# Altium footprint library CLAP.PcbLib: 265 footprints (part 14 of 17)
Each footprint in its own frame and in the unit in brackets; x right, y up, seen from the top. Pads: shape width x height; smd on the part's side, far side on the other; paste and mask are expansions set on the pad; w line width, h text height; cw(c..) or ccw(c..) is an arc to the next point about the centre after c.
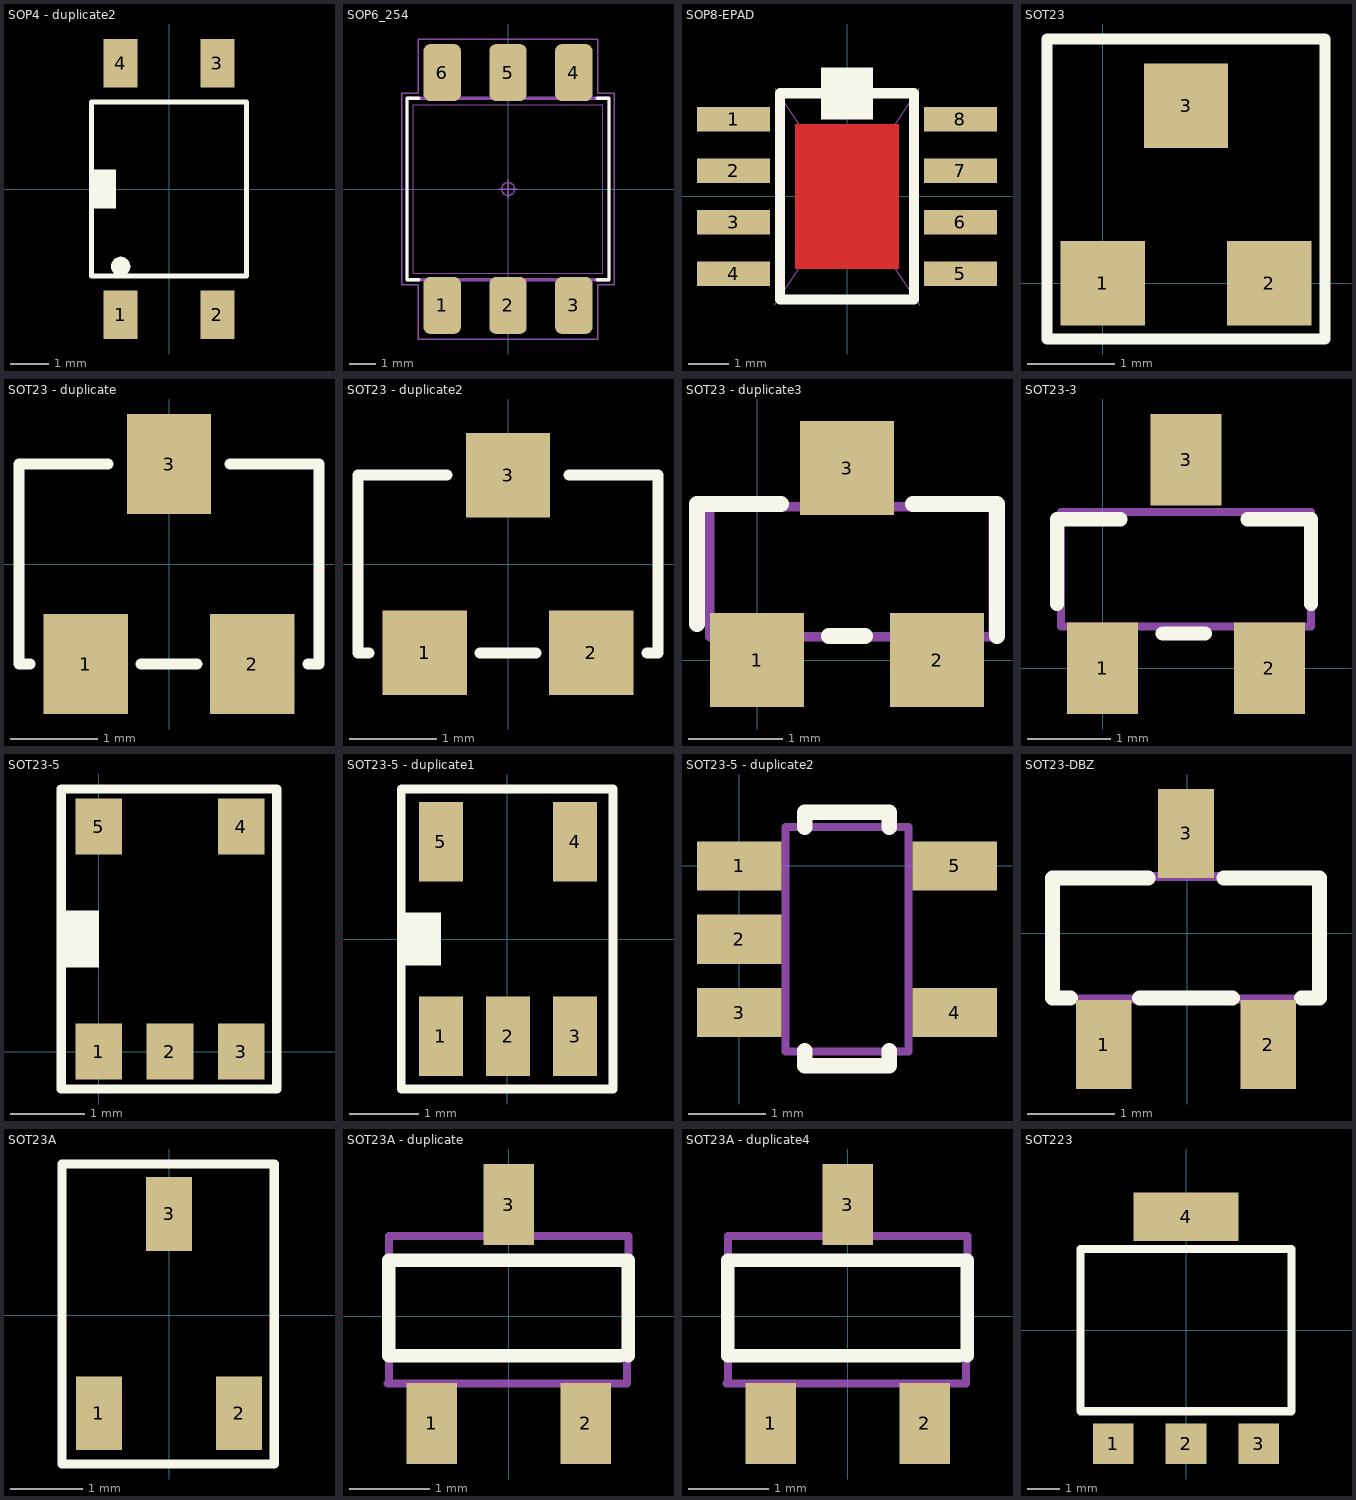
[diagram p13: the footprints below, top view; thin cyan lines are the x and y axes]

## SOP4 - duplicate2 [mil]
pads (4):
  rect 35x50 smd: 1(-50,-130) 2(50,-130) 3(50,130) 4(-50,130)
Top Overlay:
  circle w10: c-50,-80 r5
  region: -80,-20 -55,-20 -55,20 -80,20
  lines w5: -80,-90 80,-90 80,90 -80,90 -80,-90
3D body "SOP-4_3.8x4.1mm_P2.54mm.step": height 82.68, standoff 0, extent -80.5,-116.06 80.49,123.94

## SOP6_254 [mm] "Small Outline IC (SOIC), 2.54 mm pitch; 6 pin, 7.30 mm L X 6.50 mm W X 3.60 mm H body"
height 3.6
pads (6):
  rrect35% 1.44x2.19 smd: 1(-2.54,-4.49) 2(0,-4.49) 3(2.54,-4.49) 4(2.54,4.49) 5(0,4.49) 6(-2.54,4.49)
Top Overlay:
  lines w0.12: -3.44,-3.5 -3.9,-3.5 -3.9,3.5 -3.44,3.5 ; 3.44,-3.5 3.9,-3.5 3.9,3.5 3.44,3.5
Mechanical 11:
  lines w0.12: -3.9,-3.5 3.9,-3.5 3.9,3.5 -3.9,3.5 -3.9,-3.5
Mechanical 12:
  lines w0.025: -3.65,-3.25 3.65,-3.25 3.65,3.25 -3.65,3.25 -3.65,-3.25 ; -3.115,-5.08 -3.115,-4.08 -1.965,-4.08 -1.965,-5.08 -3.115,-5.08 ; -3.115,4.08 -3.115,5.08 -1.965,5.08 -1.965,4.08 -3.115,4.08 ; -0.575,-5.08 -0.575,-4.08 0.575,-4.08 0.575,-5.08 -0.575,-5.08 ; -0.575,4.08 -0.575,5.08 0.575,5.08 0.575,4.08 -0.575,4.08 ; 1.965,-5.08 1.965,-4.08 3.115,-4.08 3.115,-5.08 1.965,-5.08 ; 1.965,4.08 1.965,5.08 3.115,5.08 3.115,4.08 1.965,4.08
Mechanical 15:
  circle w0.05: c0,0 r0.25
  lines w0.05: -0.35,0 0.35,0 ; 0,-0.35 0,0.35 ; -4.1,-3.7 -3.46,-3.7 -3.46,-5.785 3.46,-5.785 3.46,-3.7 4.1,-3.7 4.1,3.7 3.46,3.7 3.46,5.785 -3.46,5.785 -3.46,3.7 -4.1,3.7 -4.1,-3.7
Mechanical 16:
  text ".Designator" at 0,0 h1.2
3D body "SOP6_254.STEP": height 3.6, standoff 0, extent -3.65,-5.08 3.65,5.08

## SOP8-EPAD [mil]
pads (8):
  rect 71x24 smd: 1(-110,75) 2(-110,25) 3(-110,-25) 4(-110,-75) 5(110,-75) 6(110,-25) 7(110,25) 8(110,75)
Top Layer:
  region: -50,70 -50,-70 50,-70 50,70
Top Overlay:
  region: -25,125 -25,75 25,75 25,125
  lines w10: -65,-100 -65,100 65,100 65,-100 -65,-100
Top Solder:
  region: -50,70 -50,-70 50,-70 50,70
Mechanical 1:
  lines w1: -70,-105 70,105 ; -70,105 70,-105
3D body "SOIC-8-1EP_3.9x4.9mm_P1.27mm_EP2.35x2.35mm.step": height 68.9, standoff 0, extent -118.1,-96.46 118.12,96.46

## SOT23 [mil]
pads (3):
  rect 38x38 smd: 1(0,0) 2(75,0) 3(37.5,80)
Top Overlay:
  lines w5: -25,-25 100,-25 100,110 -25,110 -25,-25
3D body "SOT95P229X119-3N.stp": height 46.85, standoff 0.08, extent -21.66,-11.81 96.45,86.62

## SOT23 - duplicate [mil]
pads (3):
  rect 38x45 smd: 1(-37.5,-45) 2(37.5,-45) 3(0,45)
Top Overlay:
  lines w5: -62.5,-45 -67.5,-45 -67.5,45 -27.5,45 ; -12.5,-45 12.5,-45 ; 27.5,45 67.5,45 67.5,-45 62.5,-45
3D body "SOT-23.step": height 47.24, standoff 0, extent -59.06,-49.21 59.06,49.22

## SOT23 - duplicate2 [mil]
pads (3):
  rect 38x38 smd: 1(-37.5,-40) 2(37.5,-40) 3(0,40)
Top Overlay:
  lines w5: -62.5,-40 -67.5,-40 -67.5,40 -27.5,40 ; -12.5,-40 12.5,-40 ; 27.5,40 67.5,40 67.5,-40 62.5,-40
3D body "SOT-23.step": height 47.24, standoff 0, extent -59.06,-49.21 59.06,49.22

## SOT23 - duplicate3 [mm]
height 1
pads (3):
  rect 1x1 smd: 1(0,0) 2(1.905,0) 3(0.953,2.032)
Top Overlay:
  lines w0.17: -0.635,0.381 -0.635,1.651 0.254,1.651 ; 0.762,0.254 1.143,0.254 ; 1.651,1.651 2.54,1.651 2.54,0.254
Mechanical 1:
  lines w0.1: -0.5,0.246 2.5,0.246 2.5,1.621 -0.5,1.621 -0.5,0.246
3D body "SOT-23.step": height 1.2, standoff 0, extent -0.55,-0.25 2.45,2.25

## SOT23-3 [mm]
height 1.12
pads (3):
  rect 0.85x1.1 smd: 1(0,0) 2(2,0) 3(1,2.5)
Top Overlay:
  lines w0.17: -0.548,0.771 -0.548,1.787 0.214,1.787 ; 0.722,0.417 1.23,0.417 ; 1.738,1.787 2.5,1.787 2.5,0.771
Mechanical 1:
  lines w0.1: -0.5,0.5 2.5,0.5 2.5,1.875 -0.5,1.875 -0.5,0.5
3D body "SOT-23.step": height 1.2, standoff 0, extent -0.55,0 2.45,2.5

## SOT23-5 [mil]
pads (5):
  rect 25x30 smd: 1(0,0) 2(38,0) 3(76,0) 4(76,120) 5(0,120)
Top Overlay:
  region: -20,45 0,45 0,75 -20,75
  lines w5: -20,-20 95,-20 95,140 -20,140 -20,-20
3D body "SOT-23-5.step": height 61.02, standoff 0, extent -19.69,3.94 94.49,114.18

## SOT23-5 - duplicate1 [mil]
pads (5):
  rect 25x45 smd: 1(-37.5,-55) 2(0.5,-55) 3(38.5,-55) 4(38.5,55) 5(-37.5,55)
Top Overlay:
  region: -57.5,-15 -37.5,-15 -37.5,15 -57.5,15
  lines w5: -60,-85 60,-85 60,85 -60,85 -60,-85
3D body "SOT-23-5.step": height 61.02, standoff 0, extent -57.09,-55.11 57.09,55.12

## SOT23-5 - duplicate2 [mm]
pads (5):
  rect 1.1x0.64 smd: 1(0,0) 2(0,-0.953) 3(0,-1.906) 4(2.8,-1.906) 5(2.8,0)
Top Overlay:
  lines w0.2: 0.85,-2.4 0.85,-2.6 1.95,-2.6 1.95,-2.4 ; 0.85,0.5 0.85,0.7 1.95,0.7 1.95,0.5
Mechanical 1:
  lines w0.1: 0.6,-2.413 0.6,0.507 2.2,0.507 2.2,-2.413 0.6,-2.413
3D body "SOT-23-5.step": height 1.55, standoff 0, extent 0.1,-2.4 2.9,0.5

## SOT23-DBZ [mil]
pads (3):
  rect 25x40 smd: 1(-37.5,-50) 2(36.5,-50) 3(-0.5,45)
Top Overlay:
  lines w6.69: -52.5,-29 -60.5,-29 -60.5,25 -17.5,25 ; -21.5,-29 20.5,-29 ; 16.5,25 59.5,25 59.5,-29 51.5,-29
Mechanical 1:
  lines w3.94: -60.5,-29 -52.5,-29 ; 16.5,25 59.5,25 ; 51.5,-29 59.5,-29 ; -59.84,-29.53 -59.84,25.59 58.27,25.59 58.27,-29.53 -59.84,-29.53
3D body "SOT-23.step": height 47.24, standoff 0, extent -59.06,-49.21 59.06,49.22

## SOT23A [mil]
pads (3):
  rect 25x40 smd: 1(-38,-53) 2(38,-53) 3(0,55)
Top Overlay:
  lines w5: -58,-80.5 -58,82 57,82 57,-80.5 -58,-80.5
3D body "SOT-23.step": height 47.24, standoff 0, extent -59.06,-49.21 59.06,49.22

## SOT23A - duplicate [mil]
pads (3):
  rect 25x40 smd: 1(-38,-53) 2(38,-53) 3(0,55)
Top Overlay:
  lines w6.69: 55.12,-19.68 -59.06,-19.68 -59.06,27.56 59.06,27.56 59.06,-19.68
Mechanical 1:
  lines w3.94: -59.69,-33.19 58.43,-33.19 59.06,39.37 -59.06,39.37 -59.06,-31.5
3D body "SOT-23.step": height 47.24, standoff 0, extent -59.06,-49.21 59.06,49.22

## SOT23A - duplicate4 [mil]
pads (3):
  rect 25x40 smd: 1(-38,-53) 2(38,-53) 3(0,55)
Top Overlay:
  lines w6.69: 55.12,-19.68 -59.06,-19.68 -59.06,27.56 59.06,27.56 59.06,-19.68
Mechanical 1:
  lines w3.94: -59.69,-33.19 58.43,-33.19 59.06,39.37 -59.06,39.37 -59.06,-31.5
3D body "SOT-23.step": height 47.24, standoff 0, extent -59.06,-49.21 59.05,49.21

## SOT223 [mil]
pads (4):
  rect 50x50 smd: 1(-90,-140) 2(0,-140) 3(90,-140)
  rect 130x60 smd: 4(0,140)
Top Overlay:
  lines w10: -130,-100 -130,100 130,100 130,-100 -130,-100
3D body "SOT-223.step": height 66.93, standoff 0, extent -127.96,-137.79 127.95,137.8